# EAGLE library part VME1 (library Stecker_Pins)
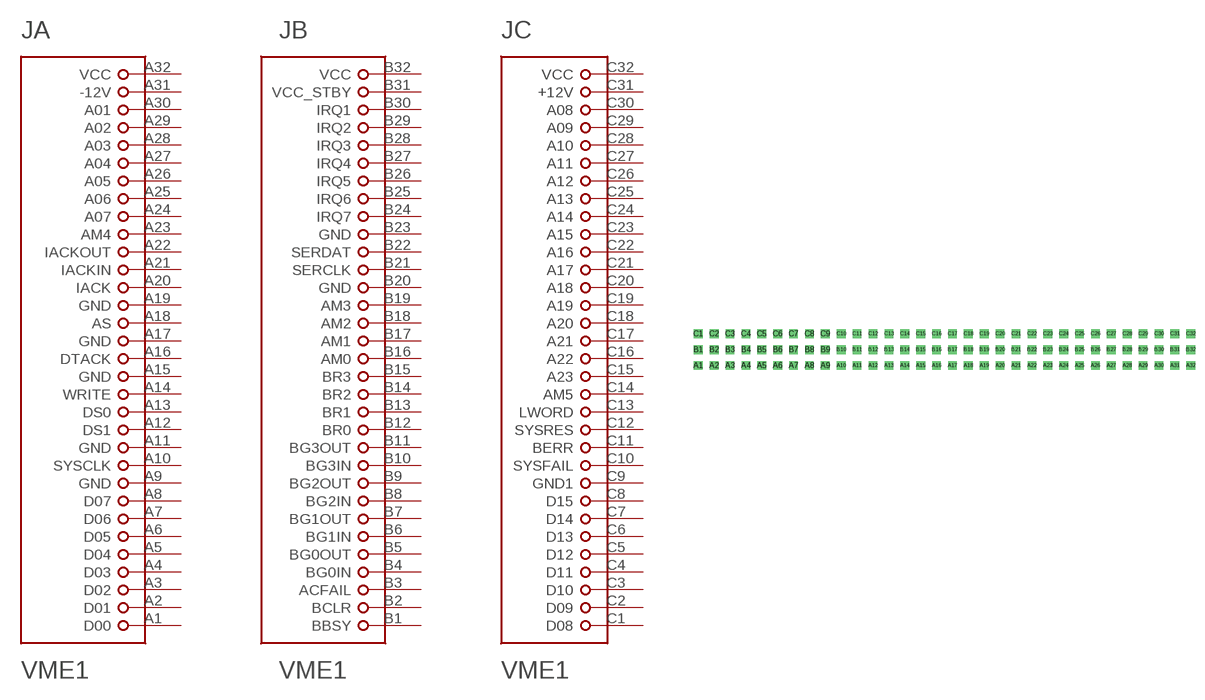
[diagram p8: symbol with the pads of VG32ABC; footprint VG32ABC]

Designator prefix J; gates A=VME1A B=VME1B C=VME1C

## VME1  [VG32ABC]
A1  A:D00  hiz
A2  A:D01  hiz
A3  A:D02  hiz
A4  A:D03  hiz
A5  A:D04  hiz
A6  A:D05  hiz
A7  A:D06  hiz
A8  A:D07  hiz
A9  A:GND  pwr
A10  A:SYSCLK
A11  A:GND  pwr
A12  A:DS1
A13  A:DS0
A14  A:WRITE
A15  A:GND  pwr
A16  A:DTACK  oc
A17  A:GND  pwr
A18  A:AS  hiz
A19  A:GND  pwr
A20  A:IACK  oc
A21  A:IACKIN
A22  A:IACKOUT
A23  A:AM4
A24  A:A07  in
A25  A:A06  in
A26  A:A05  in
A27  A:A04  in
A28  A:A03  in
A29  A:A02  in
A30  A:A01  in
A31  A:-12V  pwr
A32  A:VCC  pwr
B1  B:BBSY  oc
B2  B:BCLR
B3  B:ACFAIL  oc
B4  B:BG0IN  in
B5  B:BG0OUT  out
B6  B:BG1IN  in
B7  B:BG1OUT  out
B8  B:BG2IN  in
B9  B:BG2OUT  out
B10  B:BG3IN  in
B11  B:BG3OUT  out
B12  B:BR0  oc
B13  B:BR1  oc
B14  B:BR2  oc
B15  B:BR3  oc
B16  B:AM0
B17  B:AM1
B18  B:AM2
B19  B:AM3
B20  B:GND  pwr
B21  B:SERCLK
B22  B:SERDAT
B23  B:GND  pwr
B24  B:IRQ7  oc
B25  B:IRQ6  oc
B26  B:IRQ5  oc
B27  B:IRQ4  oc
B28  B:IRQ3  oc
B29  B:IRQ2  oc
B30  B:IRQ1  oc
B31  B:VCC_STBY  pwr
B32  B:VCC  pwr
C1  C:D08  hiz
C2  C:D09  hiz
C3  C:D10  hiz
C4  C:D11  hiz
C5  C:D12  hiz
C6  C:D13  hiz
C7  C:D14  hiz
C8  C:D15  hiz
C9  C:GND1  pwr
C10  C:SYSFAIL  oc
C11  C:BERR  oc
C12  C:SYSRES  oc
C13  C:LWORD
C14  C:AM5
C15  C:A23  in
C16  C:A22  in
C17  C:A21  in
C18  C:A20  in
C19  C:A19  in
C20  C:A18  in
C21  C:A17  in
C22  C:A16  in
C23  C:A15  in
C24  C:A14  in
C25  C:A13  in
C26  C:A12  in
C27  C:A11  in
C28  C:A10  in
C29  C:A09  in
C30  C:A08  in
C31  C:+12V  pwr
C32  C:VCC  pwr

## Footprint VG32ABC (pad centres in mm)
drill 0.8 pad 1.397 square: A1 0,0; A2 2.54,0; A3 5.08,0; A4 7.62,0; A5 10.16,0; A6 12.7,0; A7 15.24,0; A8 17.78,0; A9 20.32,0; A10 22.86,0; A11 25.4,0; A12 27.94,0; A13 30.48,0; A14 33.02,0; A15 35.56,0; A16 38.1,0; A17 40.64,0; A18 43.18,0; A19 45.72,0; A20 48.26,0; A21 50.8,0; A22 53.34,0; A23 55.88,0; A24 58.42,0; A25 60.96,0; A26 63.5,0; A27 66.04,0; A28 68.58,0; A29 71.12,0; A30 73.66,0; A31 76.2,0; A32 78.74,0; B1 0,2.54; B2 2.54,2.54; B3 5.08,2.54; B4 7.62,2.54; B5 10.16,2.54; B6 12.7,2.54; B7 15.24,2.54; B8 17.78,2.54; B9 20.32,2.54; B10 22.86,2.54; B11 25.4,2.54; B12 27.94,2.54; B13 30.48,2.54; B14 33.02,2.54; B15 35.56,2.54; B16 38.1,2.54; B17 40.64,2.54; B18 43.18,2.54; B19 45.72,2.54; B20 48.26,2.54; B21 50.8,2.54; B22 53.34,2.54; B23 55.88,2.54; B24 58.42,2.54; B25 60.96,2.54; B26 63.5,2.54; B27 66.04,2.54; B28 68.58,2.54; B29 71.12,2.54; B30 73.66,2.54; B31 76.2,2.54; B32 78.74,2.54; C1 0,5.08; C2 2.54,5.08; C3 5.08,5.08; C4 7.62,5.08; C5 10.16,5.08; C6 12.7,5.08; C7 15.24,5.08; C8 17.78,5.08; C9 20.32,5.08; C10 22.86,5.08; C11 25.4,5.08; C12 27.94,5.08; C13 30.48,5.08; C14 33.02,5.08; C15 35.56,5.08; C16 38.1,5.08; C17 40.64,5.08; C18 43.18,5.08; C19 45.72,5.08; C20 48.26,5.08; C21 50.8,5.08; C22 53.34,5.08; C23 55.88,5.08; C24 58.42,5.08; C25 60.96,5.08; C26 63.5,5.08; C27 66.04,5.08; C28 68.58,5.08; C29 71.12,5.08; C30 73.66,5.08; C31 76.2,5.08; C32 78.74,5.08